# EAGLE library part 691809320308 (library WR-TBL Spring Clamp)
WR-TBL Series 8093 - Screwless Push In 3.81mm pitch - 45° cable entry - THR KIND PROPERTIES Pitch 3.81 mm MATERIAL PROPERTIES Insulator Material PA4T Insulator Flammability Rating UL94 V-0 Insulator Color Black Spring Material Stainless Steel Pin Material Brass Pin Plating Tin over Nickel GENERAL INFORMATION Operating Temperature -40 up to +115 °C ELECTRICAL PROPERTIES IR cULus 10 A IR VDE 9 A Working Voltage [cULus] 300 V Working Voltage [VDE] 130 V Withstanding Voltage [cULus] 1600 V (AC) Withstanding Voltage [VDE] 1250 V (AC) Contact Resistance [cULus] 20 mΩ Contact Resistance [VDE] 20 mΩ Mechanical Properties Wire Strip Length 8 up to 9 (mm) Wire Properties Solid Wire Section (AWG) 26 to 16 (AWG) Solid Wire Section (Metric) 0.2 to 1.5 (mm²) Stranded Wire Section (AWG) 26 to 16 (AWG) Stranded Wire Section (Metric) 0.2 to 1.5 (mm²) CERTIFICATION cULus Approval E315414 VDE Approval 40055182 Packaging Properties Packaging Tape and Reel x Details see: www.we-online.com/en/components/products/WR-TBL_SERIES_8093_SCREWLESS_PUSH_IN_3_81MM_PITCH_45___CABLE_ENTRY_THR Created by Ella Wu 2023-06-13 2023(C) Würth Elektronik
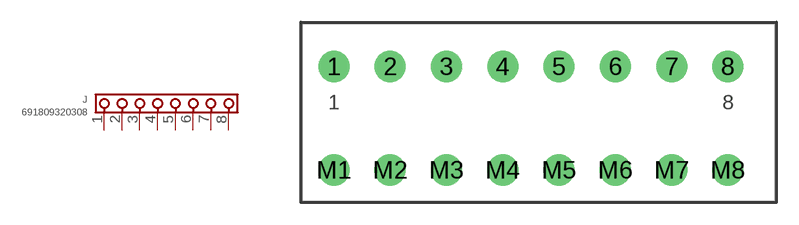
[diagram p152: symbol with the pads of 691809320308; footprint 691809320308]

Designator prefix J

## 691809320308 (APPLICATION: Screwless Push In; DATASHEET: https://www.we-online.com/redexpert/spec/691809320308?ae; IR-UL: 10A; MODULARITY: Yes; MOUNT: THR; PART-NUMBER: 691809320308; PINS: 8; PITCH: 3.81mm; TYPE: 45°; VALUE: 691809320308; WIRE: 26 to 16 (AWG) 0.2 to 1.5 (mm²); WORKING-VOLTAGE-UL: 300V)  [691809320308]
1  1  pas
2  2  pas
3  3  pas
4  4  pas
5  5  pas
6  6  pas
7  7  pas
8  8  pas

## Footprint 691809320308 (pad centres in mm)
WR-TBL Series 8093 - Screwless Push In 3.81mm pitch - 45° cable entry - THR Pitch 3.81mm, THR, 8pins
drill 1.4: 1 -13.335,3.5; 2 -9.525,3.5; 3 -5.715,3.5; 4 -1.905,3.5; 5 1.905,3.5; 6 5.715,3.5; 7 9.525,3.5; 8 13.335,3.5; M1 -13.335,-3.5; M2 -9.525,-3.5; M3 -5.715,-3.5; M4 -1.905,-3.5; M5 1.905,-3.5; M6 5.715,-3.5; M7 9.525,-3.5; M8 13.335,-3.5